# EAGLE library part MC33262DG (library On Semiconductor)
Power Factor Controllers
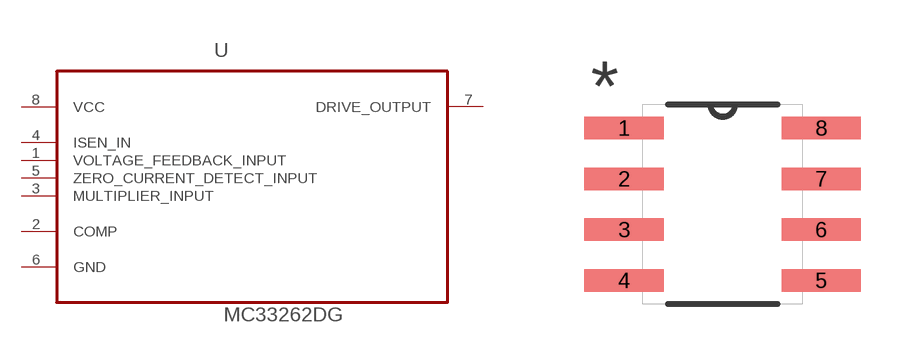
[diagram p371: symbol with the pads of SOIC127P600X175-8N; footprint SOIC127P600X175-8N]

Designator prefix U

## MC33262DG (MPN: MC33262DG; OC_FARNELL: 9664475; OC_NEWARK: 88H4727; PACKAGE: SOIC-8; SUPPLIER: ON Semiconductor)  [SOIC127P600X175-8N]
1  VOLTAGE_FEEDBACK_INPUT  in
2  COMP  in
3  MULTIPLIER_INPUT  in
4  ISEN_IN  in
5  ZERO_CURRENT_DETECT_INPUT  in
6  GND  pas
7  DRIVE_OUTPUT  out
8  VCC  pwr

## Footprint SOIC127P600X175-8N (pad centres in mm)
smd 1.981 x 0.559: 1 -2.464,1.905; 2 -2.464,0.635; 3 -2.464,-0.635; 4 -2.464,-1.905; 5 2.464,-1.905; 6 2.464,-0.635; 7 2.464,0.635; 8 2.464,1.905